# EAGLE library part TALEMA5VA-7VA (library toslink)
TALEMA 5VA or 7VA transformer
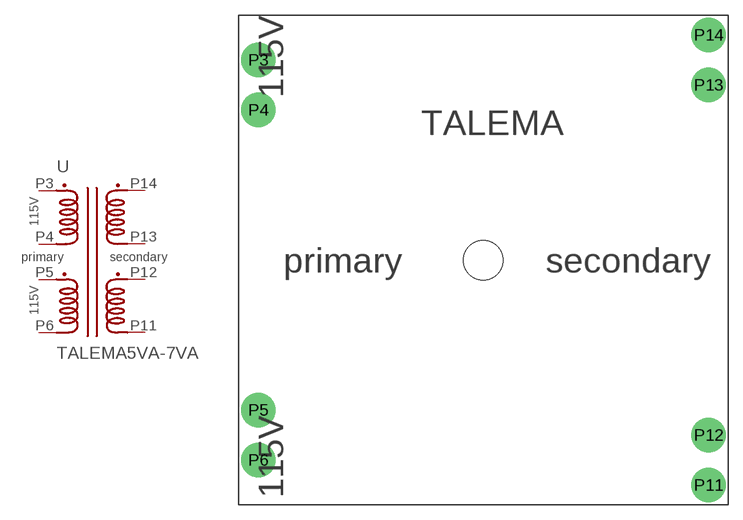
[diagram p16: symbol with the pads of TALEMA5VA-7VA; footprint TALEMA5VA-7VA]

Designator prefix -

## TALEMA5VA-7VA  [TALEMA5VA-7VA]
P3  P3  pas
P4  P4  pas
P5  P5  pas
P6  P6  pas
P11  S11  pas
P12  S12  pas
P13  S13  pas
P14  S14  pas

## Footprint TALEMA5VA-7VA (pad centres in mm)
TALEMA 5VA or 7VA transformer
drill 1.2 pad 3.5: P3 -22.86,20.32; P4 -22.86,15.24; P5 -22.86,-15.24; P6 -22.86,-20.32; P11 22.86,-22.86; P12 22.86,-17.78; P13 22.86,17.78; P14 22.86,22.86
hole 4 at 0,0